# Altium integrated library library_jakub_wieczorek.IntLib: 4 symbols
Pins are listed as number, name and electrical type; pins without a type are passive.

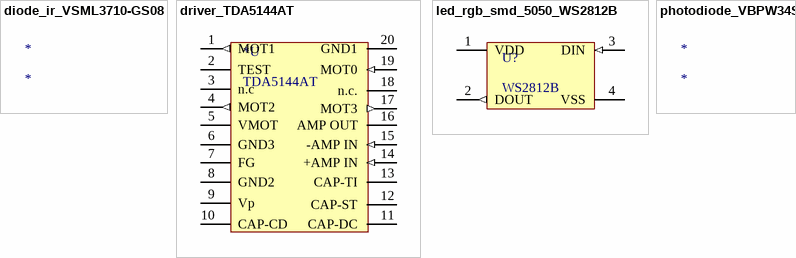
[diagram p0: symbols diode_ir_VSML3710-GS08 to photodiode_VBPW34S]

## diode_ir_VSML3710-GS08
designator *

## driver_TDA5144AT
designator *U, comment TDA5144AT
driver TDA5144AT; ComponentLink1Description: TDA5144_data_scheet; ComponentLink1URL: .\data_sheets\TDA5144_data_sheet.pdf
pins: 1 MOT1 (out) "driver output 1", 2 TEST "test input/output", 3 n.c "not connected", 4 MOT2 (out) "driver output 2", 5 VMOT (power) "input voltage for the output driver stages", 6 GND3 (power) "ground supply; must be connected", 7 FG (oc) "frequency generator: output of the rotation speed (open collector digital output)", 8 GND2 (power) "ground supply return for control circuits", 9 Vp (power) "supply voltage", 10 CAP-CD "external capacitor connection for adaptive communication delay timing", 11 CAP-DC "external capacitor connection for adaptive communication delay timing copy", 12 CAP-ST "external capacitor connection for start-up oscillator", 13 CAP-TI "external capacitor connection for timing", 14 +AMP IN (in) "non-inverting input of the transconductance amplifier", 15 -AMP IN (in) "inverting input of the transconductance amplifier", 16 AMP OUT (oc) "transconductance amplifier output (open collector)", 17 MOT3 (out) "driver output 3", 18 n.c. "not connected", 19 MOT0 (in) "input from the star point of the motor coils", 20 GND1 (power) "ground (0 V) motor supply return for output stages"

## led_rgb_smd_5050_WS2812B
designator U?, comment WS2812B
LED rgb in smd package 5050 and driver WS2812B; ComponentLink4Description: WS2812B_data_sheet; ComponentLink4URL: .\data_sheets\WS2812B_data_sheet.pdf
footprint led_rgb_smd_5050_WS2812B (LED rgb in smd package 5050 and driver WS2812S)
pins: 1 VDD (power), 2 DOUT (out) "Control data signal output", 3 DIN (in) "Control data signal input", 4 VSS (power) "Ground"

## photodiode_VBPW34S
designator *